# Altium schematic symbol library 30.1kOhm 0603 RES.SchLib: 1 symbol
Pins are listed as number, name and electrical type; pins without a type are passive.

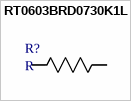
[diagram p0: symbol RT0603BRD0730K1L]

## RT0603BRD0730K1L
designator R?, comment R
Imported; Manufacturer Part Number: RT0603BRD0730K1L; Vendor: Yageo; Built_By: EMA_UL_Team; C: Copyright (C) 2015 Accelerated Designs. All rights reserved; Value: 30.1k; RefDes: RefDes; Type: DEV
footprint RC0603N
footprint RC0603N
footprint RC0603N-M
pins: 1, 2